# EAGLE library part LTC6802-2 (library LTC6802)
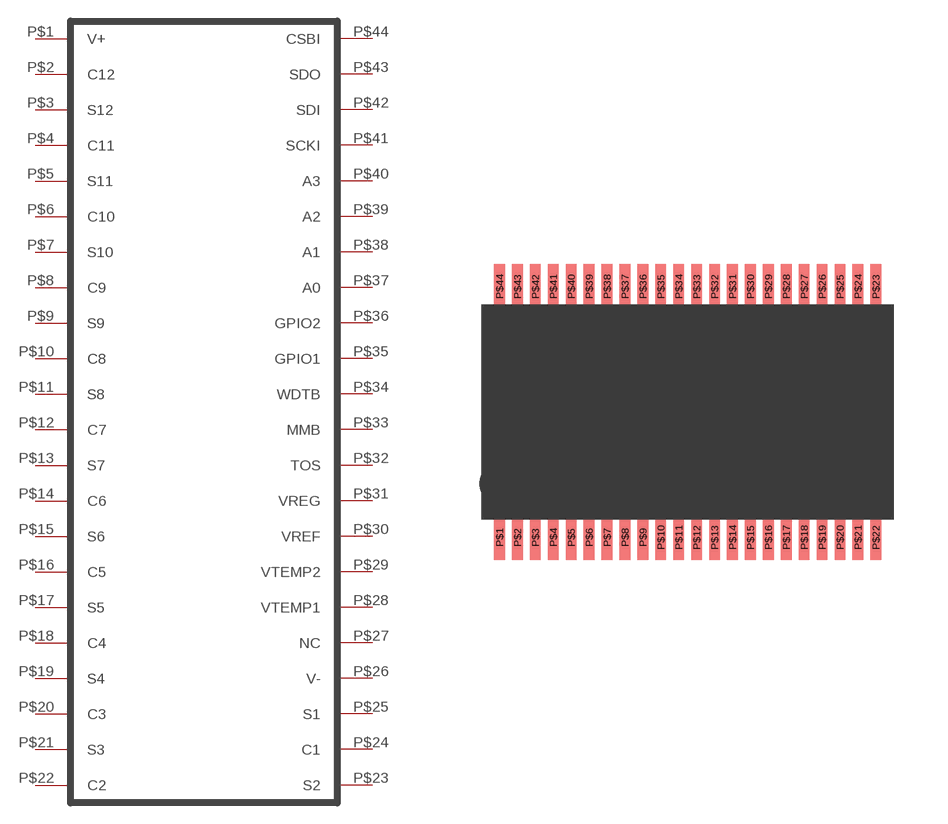
[diagram p1: symbol with the pads of SSOP48; footprint SSOP48]

Designator prefix -

## LTC6802-2  [SSOP48]
P$1  V+
P$2  C12
P$3  S12
P$4  C11
P$5  S11
P$6  C10
P$7  S10
P$8  C9
P$9  S9
P$10  C8
P$11  S8
P$12  C7
P$13  S7
P$14  C6
P$15  S6
P$16  C5
P$17  S5
P$18  C4
P$19  S4
P$20  C3
P$21  S3
P$22  C2
P$23  S2
P$24  C1
P$25  S1
P$26  V-
P$27  NC
P$28  VTEMP1
P$29  VTEMP2
P$30  VREF
P$31  VREG
P$32  TOS
P$33  MMB
P$34  WDTB
P$35  GPIO1
P$36  GPIO2
P$37  A0
P$38  A1
P$39  A2
P$40  A3
P$41  SCKI
P$42  SDI
P$43  SDO
P$44  CSBI

## Footprint SSOP48 (pad centres in mm)
smd 0.3 x 1.25: P$1 0,0.5; P$2 0.5,0.5; P$3 1,0.5; P$4 1.5,0.5; P$5 2,0.5; P$6 2.5,0.5; P$7 3,0.5; P$8 3.5,0.5; P$9 4,0.5; P$10 4.5,0.5; P$11 5,0.5; P$12 5.5,0.5; P$13 6,0.5; P$14 6.5,0.5; P$15 7,0.5; P$16 7.5,0.5; P$17 8,0.5; P$18 8.5,0.5; P$19 9,0.5; P$20 9.5,0.5; P$21 10,0.5; P$22 10.5,0.5; P$23 10.5,7.5; P$24 10,7.5; P$25 9.5,7.5; P$26 9,7.5; P$27 8.5,7.5; P$28 8,7.5; P$29 7.5,7.5; P$30 7,7.5; P$31 6.5,7.5; P$32 6,7.5; P$33 5.5,7.5; P$34 5,7.5; P$35 4.5,7.5; P$36 4,7.5; P$37 3.5,7.5; P$38 3,7.5; P$39 2.5,7.5; P$40 2,7.5; P$41 1.5,7.5; P$42 1,7.5; P$43 0.5,7.5; P$44 0,7.5